# Altium schematic symbol library resistor.SchLib: 1 symbol
Pins are listed as number, name and electrical type; pins without a type are passive.

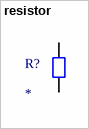
[diagram p0: symbol resistor]

## resistor
designator R?
footprint 0805
pins: 1, 2